# EAGLE library part 615064243321 (library WR-MJ)
WR-MJ Cat 3 Modular Jacks – THT Characteristics Shieldingless and Shielded with EMI-Spring option Optional LEDs in various sequences Vertical and Horizontal orientation Stacked and assembled configurations Tray Packaging Properties PoE++ Compatible up to 100W (IEEE 802.3bt) UL and cULus-Certified UL94-V0 insulator material Ethernet Category 3 – Category 5 under conditions Applications Networks Internet of Things mart Buildings <https://www.we-online.com/components/media/o863419v209%20multi-WR-MJTH-615002138421.jpg> Details see: www.we-online.com/en/components/products/WR_MJ_MODULAR_JACKS_THT <www.we-online.com/catalog/WR_MJ_MODULAR_JACKS_THT/?utm_source=eagle_model&utm_medium=description_link&utm_campaign=eisos_eagle> Updated by Yingchun Shan 2020-01-06 2020(C) Würth Elektronik
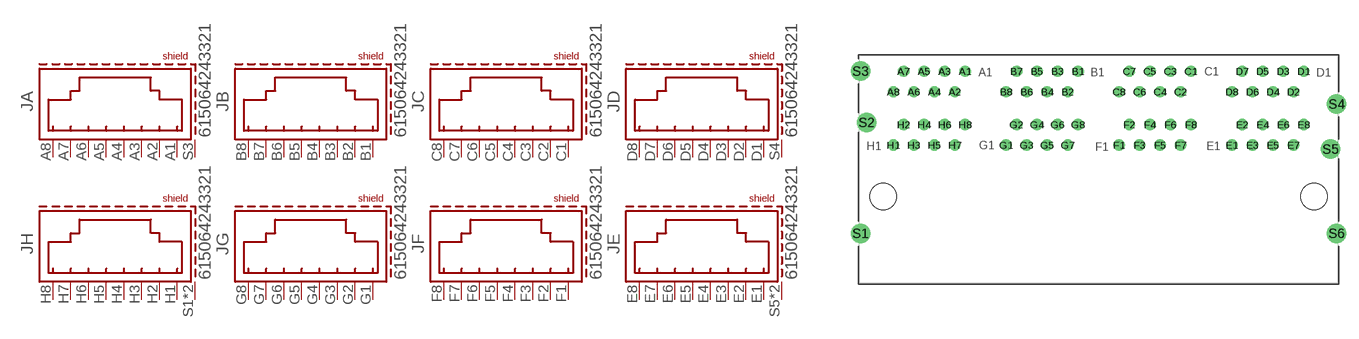
[diagram p67: symbol with the pads of 615064243321; footprint 615064243321]

Designator prefix J; gates A=8P8C_S B=8P8C_S1 C=8P8C_S1 F=8P8C_S1 G=8P8C_S1 H=8P8C_S D=8P8C_S E=8P8C_S

## 615064243321 (APPLICATION-SYSTEM: CAT 3; DATASHEET-URL: https://www.we-online.com/redexpert/spec/615064243321?ae; EMI: Yes; LED: /; MOUNT: THT; PART-NUMBER: 615064243321; SIZE: Horizontal; TAB: Up & Down; VALUE: 615064243321; XPXC: 8P8C)  [615064243321]
A1  A:1  pas
A2  A:2  pas
A3  A:3  pas
A4  A:4  pas
A5  A:5  pas
A6  A:6  pas
A7  A:7  pas
A8  A:8  pas
B1  B:1  pas
B2  B:2  pas
B3  B:3  pas
B4  B:4  pas
B5  B:5  pas
B6  B:6  pas
B7  B:7  pas
B8  B:8  pas
C1  C:1  pas
C2  C:2  pas
C3  C:3  pas
C4  C:4  pas
C5  C:5  pas
C6  C:6  pas
C7  C:7  pas
C8  C:8  pas
D1  D:1  pas
D2  D:2  pas
D3  D:3  pas
D4  D:4  pas
D5  D:5  pas
D6  D:6  pas
D7  D:7  pas
D8  D:8  pas
E1  E:1  pas
E2  E:2  pas
E3  E:3  pas
E4  E:4  pas
E5  E:5  pas
E6  E:6  pas
E7  E:7  pas
E8  E:8  pas
F1  F:1  pas
F2  F:2  pas
F3  F:3  pas
F4  F:4  pas
F5  F:5  pas
F6  F:6  pas
F7  F:7  pas
F8  F:8  pas
G1  G:1  pas
G2  G:2  pas
G3  G:3  pas
G4  G:4  pas
G5  G:5  pas
G6  G:6  pas
G7  G:7  pas
G8  G:8  pas
H1  H:1  pas
H2  H:2  pas
H3  H:3  pas
H4  H:4  pas
H5  H:5  pas
H6  H:6  pas
H7  H:7  pas
H8  H:8  pas
S1  H:SHIELD  pas
S2  H:SHIELD  pas
S3  A:SHIELD  pas
S4  D:SHIELD  pas
S5  E:SHIELD  pas
S6  E:SHIELD  pas

## Footprint 615064243321 (pad centres in mm)
WR-MJ Modular Jack Horizontal Shielded 2x 4 Stacked w. EMI Panel Finger 8P8C Tab Up&Down, 64 Pins
drill 0.9: A1 -16.51,12.14; A2 -17.78,9.6; A3 -19.05,12.14; A4 -20.32,9.6; A5 -21.59,12.14; A6 -22.86,9.6; A7 -24.13,12.14; A8 -25.4,9.6; B1 -2.54,12.14; B2 -3.81,9.6; B3 -5.08,12.14; B4 -6.35,9.6; B5 -7.62,12.14; B6 -8.89,9.6; B7 -10.16,12.14; B8 -11.43,9.6; C1 11.43,12.14; C2 10.16,9.6; C3 8.89,12.14; C4 7.62,9.6; C5 6.35,12.14; C6 5.08,9.6; C7 3.81,12.14; C8 2.54,9.6; D1 25.4,12.14; D2 24.13,9.6; D3 22.86,12.14; D4 21.59,9.6; D5 20.32,12.14; D6 19.05,9.6; D7 17.78,12.14; D8 16.51,9.6; E1 16.51,3; E2 17.78,5.54; E3 19.05,3; E4 20.32,5.54; E5 21.59,3; E6 22.86,5.54; E7 24.13,3; E8 25.4,5.54; F1 2.54,3; F2 3.81,5.54; F3 5.08,3; F4 6.35,5.54; F5 7.62,3; F6 8.89,5.54; F7 10.16,3; F8 11.43,5.54; G1 -11.43,3; G2 -10.16,5.54; G3 -8.89,3; G4 -7.62,5.54; G5 -6.35,3; G6 -5.08,5.54; G7 -3.81,3; G8 -2.54,5.54; H1 -25.4,3; H2 -24.13,5.54; H3 -22.86,3; H4 -21.59,5.54; H5 -20.32,3; H6 -19.05,5.54; H7 -17.78,3; H8 -16.51,5.54
drill 1.6: S1 -29.47,-7.92; S2 -28.71,5.8; S3 -29.47,12.15; S4 29.47,8.08; S5 28.71,2.5; S6 29.47,-7.92
hole 3.25 at -26.67,-3.35
hole 3.25 at 26.67,-3.35